# EAGLE library part MP1584+VIA (library NEON-BLADE-2024-new)
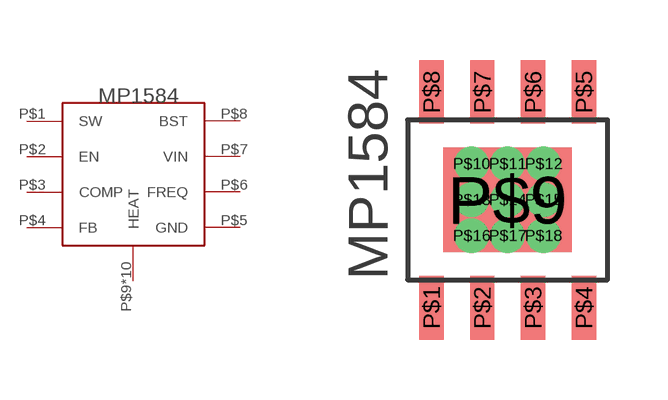
[diagram p20: symbol with the pads of MP1584+VIA; footprint MP1584+VIA]

Designator prefix -

## MP1584+VIA  [MP1584+VIA]
P$1  SW
P$2  EN
P$3  COMP
P$4  FB
P$5  GND
P$6  FREQ
P$7  VIN
P$8  BST
P$9  HEAT
P$10  HEAT
P$11  HEAT
P$12  HEAT
P$13  HEAT
P$14  HEAT
P$15  HEAT
P$16  HEAT
P$17  HEAT
P$18  HEAT

## Footprint MP1584+VIA (pad centres in mm)
smd 0.61 x 1.6: P$1 -1.905,-2.7; P$2 -0.635,-2.7; P$3 0.635,-2.7; P$4 1.905,-2.7; P$5 1.905,2.7; P$6 0.635,2.7; P$7 -0.635,2.7; P$8 -1.905,2.7
smd 3.21 x 2.62: P$9 0,0
drill 0.35: P$10 -0.9,0.9; P$11 0,0.9; P$12 0.9,0.9; P$13 -0.9,0; P$14 0,0; P$15 0.9,0; P$16 -0.9,-0.9; P$17 0,-0.9; P$18 0.9,-0.9